# Altium schematic symbol library Connectors.SchLib: 1 symbol
Pins are listed as number, name and electrical type; pins without a type are passive.

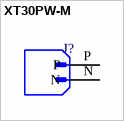
[diagram p0: symbol XT30PW-M]

## XT30PW-M
designator J?  (value not drawn)
Socket; DC supply; XT30; male; PIN: 2; on PCBs; THT; Colour: yellow
footprint AMASS_XT30PW-M
pins: N (power), P (power)